# Altium footprint library GY-521封装图.PcbLib: 6 footprints
Each footprint in its own frame and in the unit in brackets; x right, y up, seen from the top. Pads: shape width x height; smd on the part's side, far side on the other; paste and mask are expansions set on the pad; w line width, h text height; cw(c..) or ccw(c..) is an arc to the next point about the centre after c.
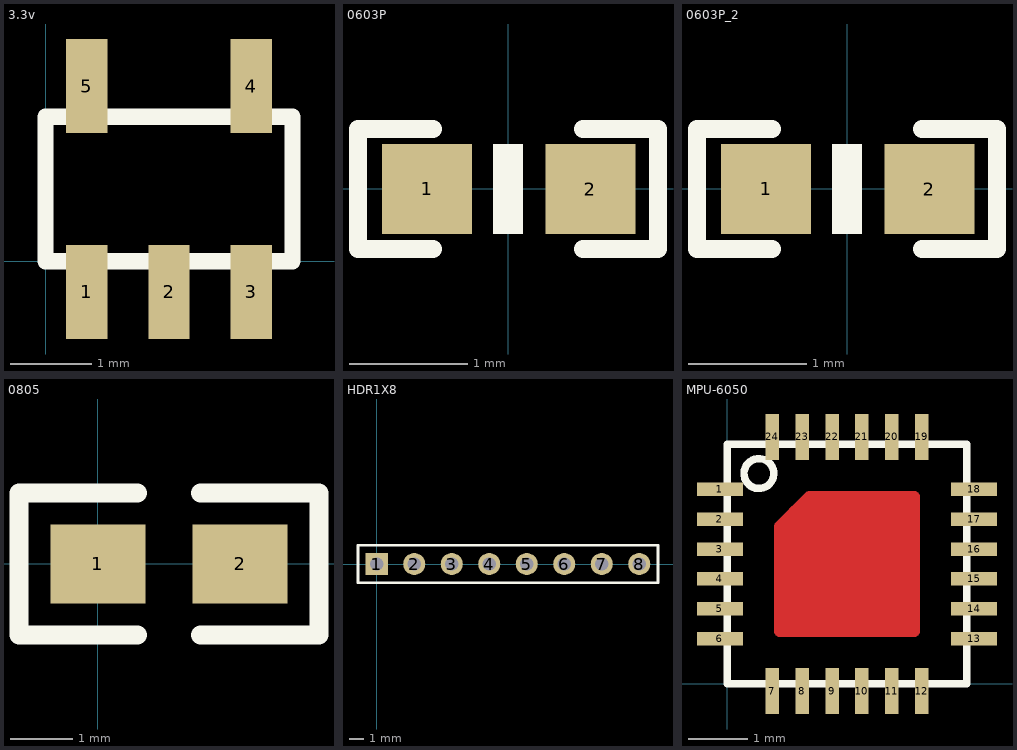
[diagram p0: the footprints below, top view; thin cyan lines are the x and y axes]

## 3.3v [mil]
pads (5):
  rect 20.01x45.75 smd: 1(20,-15) 2(60,-15) 3(100,-15) 4(100,85) 5(20,85)
Top Overlay:
  lines w8: 0,0 0,70 120,70 120,0 0,0

## 0603P [mil]
pads (2):
  rect 30x30 smd: 1(-27,0) 2(27.5,-0.06)
Top Overlay:
  region: 5,-15.06 5,14.94 -5,14.94 -5,-15.06
  lines w6: -25,-20.06 -50,-20.06 -50,19.94 -25,19.94 ; 25,-20.06 50,-20.06 50,19.94 25,19.94

## 0603P_2 [mil]
pads (2):
  rect 30x30 smd: 1(-27,0) 2(27.5,-0.06)
Top Overlay:
  region: 5,-15.06 5,14.94 -5,14.94 -5,-15.06
  lines w6: -25,-20.06 -50,-20.06 -50,19.94 -25,19.94 ; 25,-20.06 50,-20.06 50,19.94 25,19.94

## 0805 [mil]
pads (2):
  rect 60x50 smd: 1(0,-0.06) 2(90,-0.06)
Top Overlay:
  lines w12: 25,-45.06 -50,-45.06 -50,44.94 25,44.94 ; 65,-45.06 140,-45.06 140,44.94 65,44.94

## HDR1X8 [mm]
pads (8):
  rect 1.5x1.5 hole 0.9: 1(0,0)
  round 1.5 hole 0.9: 2(2.54,0) 3(5.08,0) 4(7.62,0) 5(10.16,0) 6(12.7,0) 7(15.24,0) 8(17.78,0)
Top Overlay:
  lines w0.2: -1.27,-1.27 19.05,-1.27 19.05,1.27 -1.27,1.27 -1.27,-1.27

## MPU-6050 [mil]
pads (24):
  rect 30.75x9.01 smd: 1(-5,130) 2(-5,110) 3(-5,90) 4(-5,70) 5(-5,50) 6(-5,30) 13(165,30) 14(165,50) 15(165,70) 16(165,90) 17(165,110) 18(165,130)
  rect 9.01x30.75 smd: 7(30,-5) 8(50,-5) 9(70,-5) 10(90,-5) 11(110,-5) 12(130,-5) 19(130,165) 20(110,165) 21(90,165) 22(70,165) 23(50,165) 24(30,165)
Top Layer:
  rectangle: 35,35 125,105
  rectangle: 55,95 125,125
  rectangle: 45,100 60,115
  lines w8: 42.26,107.26 40,105 35,105 ; 45,115 60,115 ; 35,105 55,125 125,125 125,35 35,35 35,105
Top Overlay:
  lines w5: 0,0 160,0 160,160 0,160 0,0 ; 30,145 ccw(c21.06,140.53) 30,145
Top Solder:
  rectangle: 30,30 130,130